# EAGLE library part PMS150C-U06 (library alvie)
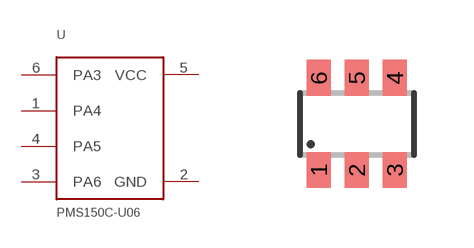
[diagram p70: symbol with the pads of SOT23-6; footprint SOT23-6]

Designator prefix -

## PMS150C-U06  [SOT23-6]
1  PA4  pas
2  GND  pwr
3  PA6  pas
4  PA5  pas
5  VCC  pwr
6  PA3  pas

## Footprint SOT23-6 (pad centres in mm)
smd 0.6 x 0.9: 1 -0.95,-1.15; 2 0,-1.15; 3 0.95,-1.15; 4 0.95,1.15; 5 0,1.15; 6 -0.95,1.15